# Altium schematic symbol library Power Module.SchLib: 12 symbols
Pins are listed as number, name and electrical type; pins without a type are passive.

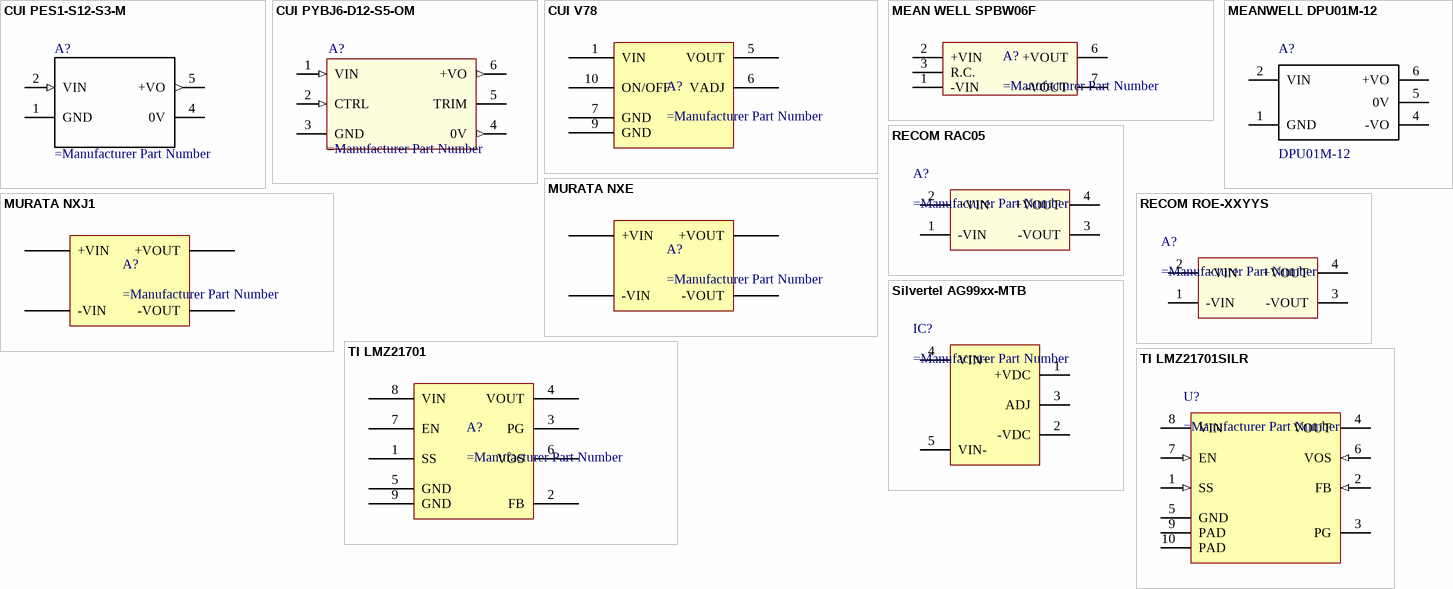
[diagram p0: symbols CUI PES1-S12-S3-M to TI LMZ21701SILR]

## CUI PES1-S12-S3-M
designator A?
footprint CUI PES1-S12-S3-M
pins: 1 GND (power), 2 VIN (in), 4 0V (power), 5 +VO (out)

## CUI PYBJ6-D12-S5-OM
designator A?
footprint CUI PYBJ6-D12-S5-OM
pins: 1 VIN (in), 2 CTRL (in), 3 GND (power), 4 0V (out), 5 TRIM, 6 +VO (out)

## CUI V78
designator A?
pins: 1 VIN, 5 VOUT, 6 VADJ, 7 GND, 9 GND, 10 ON/OFF

## MEAN WELL SPBW06F
designator A?
Power Supply
footprint SPBW06F03
pins: 1 -VIN, 2 +VIN, 3 R.C., 6 +VOUT, 7 -VOUT

## MEANWELL DPU01M-12
designator A?, comment DPU01M-12
Manufacturer: Mean Well; Supplier 1: Digi-Key; Manufacturer Part Number: DPU01M-12; Stock 1: 141; Pricing 1: 1 = 2,88000, 10 = 2,80200, 25 = 2,71920, 50 = 2,63680 (USD); Supplier Part Number 1: 1866-1411-ND
footprint MEANWELL DPU01M-12 (Isolated switching regulator 19.5x6x1x10.2mm)
pins: 1 GND (power), 2 VIN (power), 4 -VO (power), 5 0V (power), 6 +VO (power)

## MURATA NXE
designator A?
pins: 1 -VIN, 3 +VIN, 7 -VOUT, 8 +VOUT

## MURATA NXJ1
designator A?
pins: 1 -VIN, 3 +VIN, 7 -VOUT, 8 +VOUT

## RECOM RAC05
designator A?
Power Supply
footprint RECOM RAC05
pins: 1 -VIN, 2 +VIN, 3 -VOUT, 4 +VOUT

## RECOM ROE-XXYYS
designator A?
Power Supply
footprint Recom ROE1205S
pins: 1 -VIN, 2 +VIN, 3 -VOUT, 4 +VOUT

## Silvertel AG99xx-MTB
designator IC?
The Ag9900 Product Series are the smallest PoE module solutions in the world, measuring as small as 21mm(L)x14mm(W)x8mm(H), and are available in MTB and LPB (Low-Profile) options.
footprint Silvertel AG9900-MTB
pins: 1 +VDC, 2 -VDC, 3 ADJ, 4 VIN+, 5 VIN-

## TI LMZ21701
designator A?
pins: 1 SS, 2 FB, 3 PG, 4 VOUT, 5 GND, 6 VOS, 7 EN, 8 VIN, 9 GND

## TI LMZ21701SILR
designator U?
3V to 17V, 1A Step-Down DC/DC Power Module in 3.5mm × 3.5mm Package
footprint TI LMZ21701SIL
pins: 1 SS (in), 2 FB (in), 3 PG (oc), 4 VOUT (power), 5 GND (power), 6 VOS (in), 7 EN (in), 8 VIN (power), 9 PAD (power), 10 PAD (power)